# Altium schematic symbol library regdecria.SCHLIB: 1 symbol
Pins are listed as number, name and electrical type; pins without a type are passive.

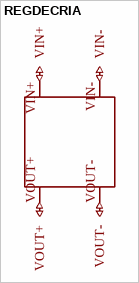
[diagram p0: symbol REGDECRIA]

## REGDECRIA
designator ?
GateName_1: G$1; SymbolName_1: REGDECRIA; LibraryName: regdecria; DeviceSetName: REGDECRIA; Package: REGDECRIA
footprint REGDECRIA
pins: VIN+ (io), VIN- (io), VOUT+ (io), VOUT- (io)